# Altium footprint library Ahrist_Library.PcbLib: 172 footprints (part 4 of 11)
Each footprint in its own frame and in the unit in brackets; x right, y up, seen from the top. Pads: shape width x height; smd on the part's side, far side on the other; paste and mask are expansions set on the pad; w line width, h text height; cw(c..) or ccw(c..) is an arc to the next point about the centre after c.
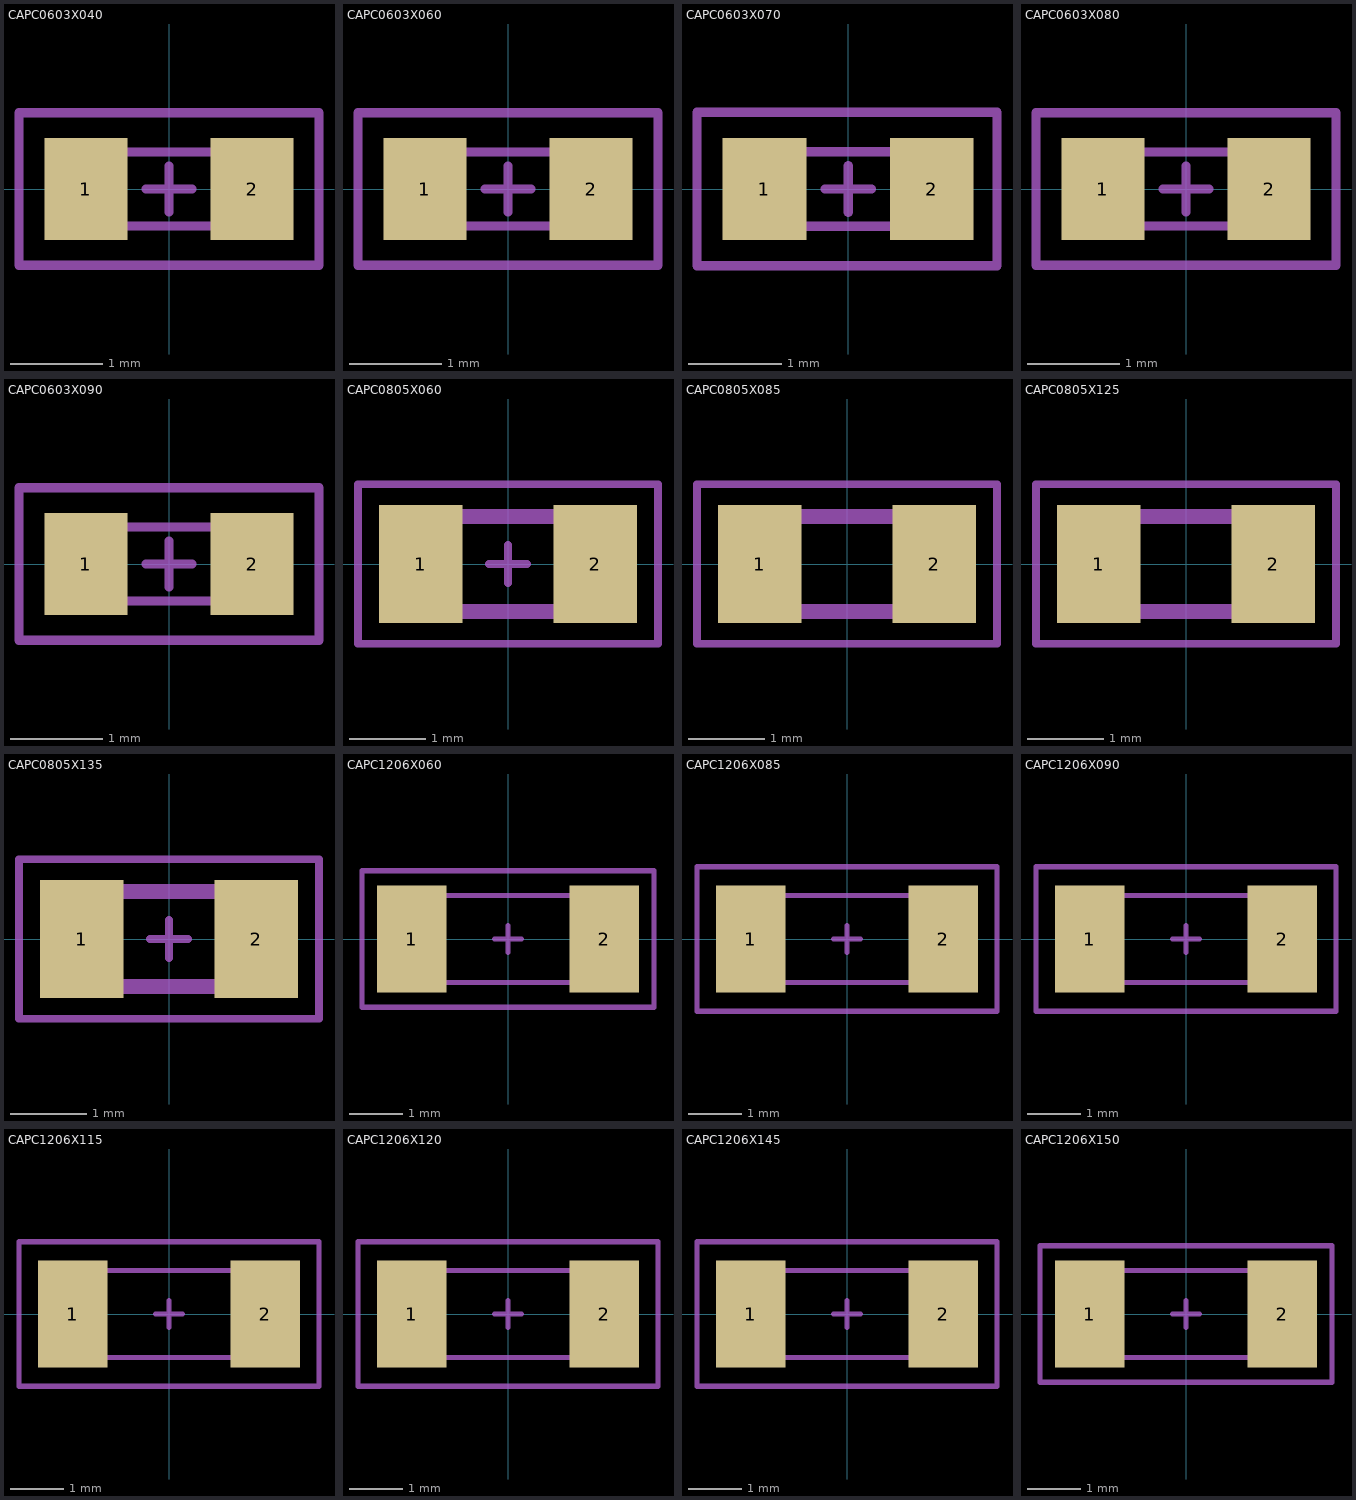
[diagram p3: the footprints below, top view; thin cyan lines are the x and y axes]

## CAPC0603X040 [mm] "Chip Capacitor, 2-Leads, Body 1.60x0.80mm, IPC Medium Density"
pads (2):
  rect 0.9x1.1 smd mask+0.075: 1(-0.9,0) 2(0.9,0)
Top Courtyard:
  lines w0.1: -1.625,-0.825 1.625,-0.825 1.625,0.825 -1.625,0.825 -1.625,-0.825
Top Assembly:
  lines w0.1: -0.8,-0.4 -0.8,0.4 0.8,0.4 0.8,-0.4 -0.8,-0.4
Top Designator:
  text ".Designator" at -0.53,-0.105 h0.3
Top Component Center:
  lines w0.1: 0.25,0 0,0 ; 0,0 0,-0.25 0,0 ; 0,0 -0.25,0 0,0 ; 0,0 0,0.25 0,0
3D body "C0603_040.step": height 0.4, standoff 0, extent -0.8,-0.4 0.8,0.4

## CAPC0603X060 [mm] "Chip Capacitor, 2-Leads, Body 1.60x0.80mm, IPC Medium Density"
pads (2):
  rect 0.9x1.1 smd mask+0.075: 1(-0.9,0) 2(0.9,0)
Top Courtyard:
  lines w0.1: -1.625,-0.825 -1.625,0.825 1.625,0.825 1.625,-0.825 -1.625,-0.825
Top Assembly:
  lines w0.1: -0.8,-0.4 0.8,-0.4 0.8,0.4 -0.8,0.4 -0.8,-0.4
Top Designator:
  text ".Designator" at -0.555,-0.105 h0.3
Top Component Center:
  lines w0.1: 0,-0.25 0,0 ; 0,0 0,0.25 0,0 ; 0,0 0.25,0 -0.25,0 0,0
3D body "C0603_060.step": height 0.6, standoff 0, extent -0.8,-0.4 0.8,0.4

## CAPC0603X070 [mm] "Chip Capacitor, 2-Leads, Body 1.60x0.80mm, IPC Medium Density"
pads (2):
  rect 0.9x1.1 smd mask+0.075: 1(-0.9,0) 2(0.9,0)
Top Courtyard:
  lines w0.1: -1.625,-0.825 1.6,-0.825 1.6,0.825 -1.625,0.825 -1.625,-0.825
Top Assembly:
  lines w0.1: -0.8,-0.4 -0.8,0.4 0.8,0.4 0.8,-0.4 -0.8,-0.4
Top Designator:
  text ".Designator" at -0.555,-0.105 h0.3
Top Component Center:
  lines w0.1: 0,-0.25 0,0 ; 0,0 0,0.25 0,0 ; 0,0 0.25,0 -0.25,0 0,0
3D body "C0603_070.step": height 0.7, standoff 0, extent -0.8,-0.4 0.8,0.4

## CAPC0603X080 [mm] "Chip Capacitor, 2-Leads, Body 1.60x0.80mm, IPC Medium Density"
pads (2):
  rect 0.9x1.1 smd mask+0.075: 1(-0.9,0) 2(0.9,0)
Top Courtyard:
  lines w0.1: -1.625,-0.825 -1.625,0.825 -1.225,0.825 1.625,0.825 1.625,-0.825 -1.625,-0.825
Top Assembly:
  lines w0.1: -0.8,-0.4 0.8,-0.4 0.8,0.4 -0.8,0.4 -0.8,-0.4
Top Designator:
  text ".Designator" at -0.555,-0.105 h0.3
Top Component Center:
  lines w0.1: 0,-0.25 0,0 ; 0,0 0,0.25 0,0 ; 0,0 0.25,0 -0.25,0 0,0
3D body "C0603_080.step": height 0.8, standoff 0, extent -0.8,-0.4 0.8,0.4

## CAPC0603X090 [mm] "Chip Capacitor, 2-Leads, Body 1.60x0.80mm, IPC Medium Density"
pads (2):
  rect 0.9x1.1 smd mask+0.075: 1(-0.9,0) 2(0.9,0)
Top Courtyard:
  lines w0.1: -1.625,-0.825 1.625,-0.825 1.625,0.825 -1.2,0.825 -1.625,0.825 -1.625,-0.825
Top Assembly:
  lines w0.1: -0.8,-0.4 -0.8,0.4 0.8,0.4 0.8,-0.4 -0.8,-0.4
Top Designator:
  text ".Designator" at -0.555,-0.105 h0.3
Top Component Center:
  lines w0.1: 0,-0.25 0,0 ; 0,0 0,0.25 0,0 ; 0,0 0.25,0 -0.25,0 0,0
3D body "C0603_090.step": height 0.9, standoff 0, extent -0.8,-0.4 0.8,0.4

## CAPC0805X060 [mm] "Chip Capacitor, 2-Leads, Body 1.00x0.50mm, IPC Medium Density"
pads (2):
  rect 1.1x1.55 smd mask+0.075: 1(-1.15,0) 2(1.15,0)
Top Courtyard:
  lines w0.1: -1.975,-1.05 -1.975,1.05 1.975,1.05 1.975,-1.05 -1.975,-1.05
Top Assembly:
  lines w0.2: -1,-0.625 -1,0.625 1,0.625 1,-0.625 -1,-0.625
Top Designator:
  text ".Designator" at -0.675,-0.258 h0.5
Top Component Center:
  lines w0.1: 0,-0.25 0,0 ; 0,0 0,0.25 0,0 ; 0,0 0.25,0 -0.25,0 0,0
3D body "C0805_060.step": height 0.6, standoff 0, extent -1,-0.625 1,0.625

## CAPC0805X085 [mm] "Chip Resistor, 2-Leads, Body 2.00x1.25mm, IPC Medium Density"
pads (2):
  rect 1.1x1.55 smd mask+0.075: 1(-1.15,0) 2(1.15,0)
Top Courtyard:
  lines w0.1: -1.975,-1.05 1.975,-1.05 1.975,1.05 -1.65,1.05 -1.975,1.05 -1.975,-1.05
Top Assembly:
  lines w0.2: -1,-0.625 1,-0.625 1,0.625 -1,0.625 -1,-0.625
Top Designator:
  text ".Designator" at -0.675,-0.258 h0.5
3D body "C0805_085.step": height 0.85, standoff 0, extent -1,-0.625 1,0.625

## CAPC0805X125 [mm] "Chip Resistor, 2-Leads, Body 2.00x1.25mm, IPC Medium Density"
pads (2):
  rect 1.1x1.55 smd mask+0.075: 1(-1.15,0) 2(1.15,0)
Top Courtyard:
  lines w0.1: -1.975,-1.05 1.975,-1.05 1.975,1.05 -1.725,1.05 -1.975,1.05 -1.975,-1.05
Top Assembly:
  lines w0.2: -1,-0.625 -1,0.625 1,0.625 1,-0.625 -1,-0.625
Top Designator:
  text ".Designator" at -0.675,-0.258 h0.5
3D body "C0805_125.step": height 1.25, standoff 0, extent -1,-0.625 1,0.625

## CAPC0805X135 [mm] "Chip Capacitor, 2-Leads, Body 1.00x0.50mm, IPC Medium Density"
pads (2):
  rect 1.1x1.55 smd mask+0.075: 1(-1.15,0) 2(1.15,0)
Top Courtyard:
  lines w0.1: -1.975,-1.05 1.975,-1.05 1.975,1.05 -1.75,1.05 -1.975,1.05 -1.975,-1.05
Top Assembly:
  lines w0.2: -1,-0.625 -1,0.625 1,0.625 1,-0.625 -1,-0.625
Top Designator:
  text ".Designator" at -0.675,-0.258 h0.5
Top Component Center:
  lines w0.1: 0,-0.25 0,0 ; 0,0 0,0.25 0,0 ; 0,0 0.25,0 -0.25,0 0,0
3D body "C0805_135.step": height 1.35, standoff 0, extent -1,-0.625 1,0.625

## CAPC1206X060 [mm] "Chip Capacitor, 2-Leads, Body 3.2x1.60mm, IPC Medium Density"
pads (2):
  rect 1.3x2 smd mask+0.075: 1(-1.8,0) 2(1.8,0)
Top Courtyard:
  lines w0.1: -2.725,-1.275 2.725,-1.275 2.725,1.275 -2.35,1.275 -2.725,1.275 -2.725,-1.275
Top Assembly:
  lines w0.1: -1.6,-0.813 1.6,-0.813 1.6,0.813 -1.6,0.813 -1.6,-0.813
Top Designator:
  text ".Designator" at -0.805,-0.105 h0.3
Top Component Center:
  lines w0.1: 0,-0.25 0,0 ; 0,0 -0.25,0 0.25,0 0,0 ; 0,0 0,0.25 0,0
3D body "C1206_060.step": height 0.6, standoff 0, extent -1.6,-0.8 1.6,0.8

## CAPC1206X085 [mm]
pads (2):
  rect 1.3x2 smd mask+0.075: 1(-1.8,0) 2(1.8,0)
Top Courtyard:
  lines w0.1: -2.8,-1.35 -2.8,1.35 -2.425,1.35 2.8,1.35 2.8,-1.35 -2.8,-1.35
Top Assembly:
  lines w0.1: -1.6,-0.813 1.6,-0.813 1.6,0.813 -1.6,0.813 -1.6,-0.813
Top Designator:
  text ".Designator" at -0.805,-0.105 h0.3
Top Component Center:
  lines w0.1: 0,-0.25 0,0 ; 0,0 0,0.25 0,0 ; 0,0 0.25,0 -0.25,0 0,0
3D body "C1206_085.step": height 0.85, standoff 0, extent -1.6,-0.8 1.6,0.8

## CAPC1206X090 [mm] "Chip Capacitor, 2-Leads, Body 3.2x1.60mm, IPC Medium Density"
pads (2):
  rect 1.3x2 smd mask+0.075: 1(-1.8,0) 2(1.8,0)
Top Courtyard:
  lines w0.1: -2.8,-1.35 -2.8,1.35 -2.425,1.35 2.8,1.35 2.8,-1.35 -2.8,-1.35
Top Assembly:
  lines w0.1: -1.6,-0.813 1.6,-0.813 1.6,0.813 -1.6,0.813 -1.6,-0.813
Top Designator:
  text ".Designator" at -0.805,-0.105 h0.3
Top Component Center:
  lines w0.1: 0,-0.25 0,0 ; 0,0 0,0.25 0,0 ; 0,0 0.25,0 -0.25,0 0,0
3D body "C1206_090.step": height 0.9, standoff 0, extent -1.6,-0.8 1.6,0.8

## CAPC1206X115 [mm]
pads (2):
  rect 1.3x2 smd mask+0.075: 1(-1.8,0) 2(1.8,0)
Top Courtyard:
  lines w0.1: -2.8,-1.35 2.8,-1.35 2.8,1.35 -2.425,1.35 -2.8,1.35 -2.8,-1.35
Top Assembly:
  lines w0.1: -1.6,-0.813 -1.6,0.813 1.6,0.813 1.6,-0.813 -1.6,-0.813
Top Designator:
  text ".Designator" at -0.805,-0.105 h0.3
Top Component Center:
  lines w0.1: 0,-0.25 0,0 ; 0,0 0,0.25 0,0 ; 0,0 0.25,0 -0.25,0 0,0
3D body "C1206_115.step": height 1.15, standoff 0, extent -1.6,-0.8 1.6,0.8

## CAPC1206X120 [mm]
pads (2):
  rect 1.3x2 smd mask+0.075: 1(-1.8,0) 2(1.8,0)
Top Courtyard:
  lines w0.1: -2.8,-1.35 -2.8,1.35 -2.425,1.35 2.8,1.35 2.8,-1.35 -2.8,-1.35
Top Assembly:
  lines w0.1: -1.6,-0.813 1.6,-0.813 1.6,0.813 -1.6,0.813 -1.6,-0.813
Top Designator:
  text ".Designator" at -0.805,-0.105 h0.3
Top Component Center:
  lines w0.1: 0,-0.25 0,0 ; 0,0 0,0.25 0,0 ; 0,0 0.25,0 -0.25,0 0,0
3D body "C1206_120.step": height 1.2, standoff 0, extent -1.6,-0.8 1.6,0.8

## CAPC1206X145 [mm] "Chip Capacitor, 2-Leads, Body 3.2x1.60mm, IPC Medium Density"
pads (2):
  rect 1.3x2 smd mask+0.075: 1(-1.8,0) 2(1.8,0)
Top Courtyard:
  lines w0.1: -2.8,-1.35 -2.8,1.35 -2.425,1.35 2.8,1.35 2.8,-1.35 -2.8,-1.35
Top Assembly:
  lines w0.1: -1.6,-0.813 1.6,-0.813 1.6,0.813 -1.6,0.813 -1.6,-0.813
Top Designator:
  text ".Designator" at -0.805,-0.105 h0.3
Top Component Center:
  lines w0.1: 0,-0.25 0,0 ; 0,0 0,0.25 0,0 ; 0,0 0.25,0 -0.25,0 0,0
3D body "C1206_145.step": height 1.45, standoff 0, extent -1.6,-0.8 1.6,0.8

## CAPC1206X150 [mm] "Chip Capacitor, 2-Leads, Body 3.2x1.60mm, IPC Medium Density"
pads (2):
  rect 1.3x2 smd mask+0.075: 1(-1.8,0) 2(1.8,0)
Top Courtyard:
  lines w0.1: -2.725,-1.275 -2.725,1.275 -2.35,1.275 2.725,1.275 2.725,-1.275 -2.725,-1.275
Top Assembly:
  lines w0.1: -1.6,-0.813 1.6,-0.813 1.6,0.813 -1.6,0.813 -1.6,-0.813
Top Designator:
  text ".Designator" at -0.805,-0.105 h0.3
Top Component Center:
  lines w0.1: 0,-0.25 0,0 ; 0,0 0,0.25 0,0 ; 0,0 0.25,0 -0.25,0 0,0
3D body "C1206_150.step": height 1.5, standoff 0, extent -1.6,-0.8 1.6,0.8